# EAGLE library part STM32F051 (library GimbalStabilizer)
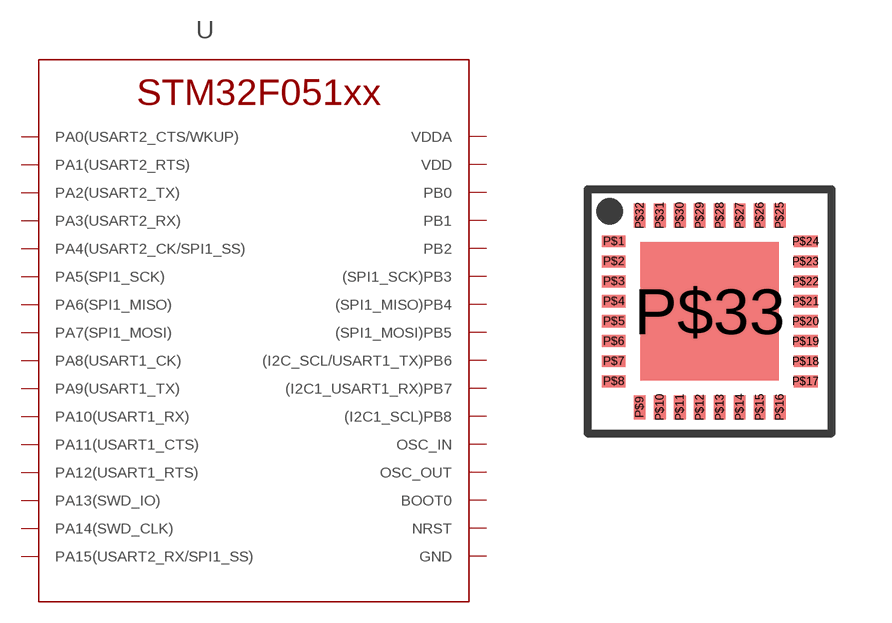
[diagram p0: symbol with the pads of UFQFN32; footprint UFQFN32]

Designator prefix U

## STM32F051K8U6  [UFQFN32]
P$1  VDD
P$2  OSC_IN
P$3  OSC_OUT
P$4  NRST
P$5  VDDA
P$6  PA0(USART2_CTS/WKUP)
P$7  PA1(USART2_RTS)
P$8  PA2(USART2_TX)
P$9  PA3(USART2_RX)
P$10  PA4(USART2_CK/SPI1_SS)
P$11  PA5(SPI1_SCK)
P$12  PA6(SPI1_MISO)
P$13  PA7(SPI1_MOSI)
P$14  PB0
P$15  PB1
P$16  PB2
P$17  VDD
P$18  PA8(USART1_CK)
P$19  PA9(USART1_TX)
P$20  PA10(USART1_RX)
P$21  PA11(USART1_CTS)
P$22  PA12(USART1_RTS)
P$23  PA13(SWD_IO)
P$24  PA14(SWD_CLK)
P$25  PA15(USART2_RX/SPI1_SS)
P$26  (SPI1_SCK)PB3
P$27  (SPI1_MISO)PB4
P$28  (SPI1_MOSI)PB5
P$29  (I2C_SCL/USART1_TX)PB6
P$30  (I2C1_USART1_RX)PB7
P$31  BOOT0
P$32  (I2C1_SCL)PB8
P$33  GND

## Footprint UFQFN32 (pad centres in mm)
smd 0.6 x 0.3: P$1 -0.65,1.5; P$2 -0.65,1; P$3 -0.65,0.5; P$4 -0.65,0; P$5 -0.65,-0.5; P$6 -0.65,-1; P$7 -0.65,-1.5; P$8 -0.65,-2; P$17 4.15,-2; P$18 4.15,-1.5; P$19 4.15,-1; P$20 4.15,-0.5; P$21 4.15,0; P$22 4.15,0.5; P$23 4.15,1; P$24 4.15,1.5
smd 0.3 x 0.6: P$9 0,-2.65; P$10 0.5,-2.65; P$11 1,-2.65; P$12 1.5,-2.65; P$13 2,-2.65; P$14 2.5,-2.65; P$15 3,-2.65; P$16 3.5,-2.65; P$25 3.5,2.15; P$26 3,2.15; P$27 2.5,2.15; P$28 2,2.15; P$29 1.5,2.15; P$30 1,2.15; P$31 0.5,2.15; P$32 0,2.15
smd 3.45 x 3.45: P$33 1.75,-0.25